# Altium schematic symbol library oled0x96inch.SchLib: 1 symbol
Pins are listed as number, name and electrical type; pins without a type are passive.

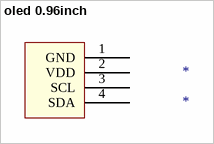
[diagram p0: symbol oled 0.96inch]

## oled 0.96inch
designator *
footprint oled 0x96inch
pins: 1 GND, 2 VDD, 3 SCL, 4 SDA